# EAGLE library part SST39SF040-45-4C-WHE-T (library PC-Engine)
Flash Memory 4.5 to 5.5 4Mbit Multi-Purpose Flash Source: Datasheet <https://componentsearchengine.com/Datasheets/1/SST39SF040-45-4C-WHE-T.pdf>
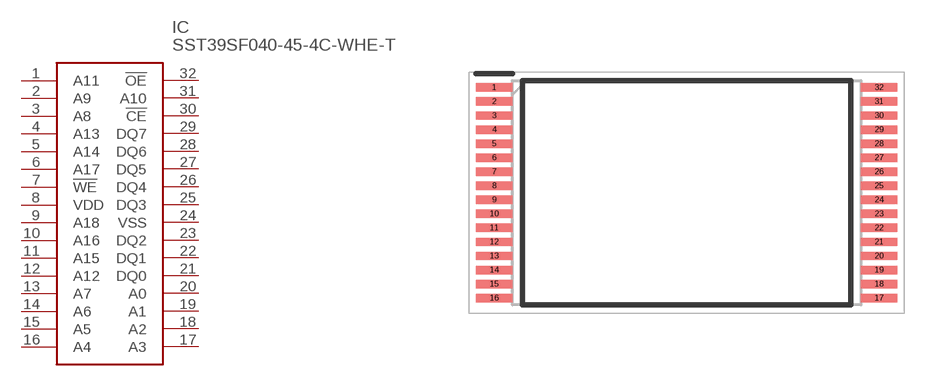
[diagram p1: symbol with the pads of SOP50P1400X120-32N; footprint SOP50P1400X120-32N]

Designator prefix IC

## SST39SF040-45-4C-WHE-T (DESCRIPTION: Flash Memory 4.5 to 5.5 4Mbit Multi-Purpose Flash; HEIGHT: 1.2mm; MANUFACTURER_NAME: Microchip; MANUFACTURER_PART_NUMBER: SST39SF040-45-4C-WHE-T; MOUSER_PART_NUMBER: 579-39SF0404CWHET; MOUSER_PRICE-STOCK: https://www.mouser.com/Search/Refine.aspx?Keyword=579-39SF0404CWHET)  [SOP50P1400X120-32N]
1  A11  in
2  A9  in
3  A8  in
4  A13  in
5  A14  in
6  A17  in
7  !WE  in
8  VDD  pwr
9  A18  in
10  A16  in
11  A15  in
12  A12  in
13  A7  in
14  A6  in
15  A5  in
16  A4  in
17  A3  in
18  A2  in
19  A1  in
20  A0  in
21  DQ0
22  DQ1
23  DQ2
24  VSS  pwr
25  DQ3
26  DQ4
27  DQ5
28  DQ6
29  DQ7
30  !CE  in
31  A10  in
32  !OE  in

## Footprint SOP50P1400X120-32N (pad centres in mm)
WH 32-pin (TSOP)
smd 1.3 x 0.3: 1 -6.85,3.75; 2 -6.85,3.25; 3 -6.85,2.75; 4 -6.85,2.25; 5 -6.85,1.75; 6 -6.85,1.25; 7 -6.85,0.75; 8 -6.85,0.25; 9 -6.85,-0.25; 10 -6.85,-0.75; 11 -6.85,-1.25; 12 -6.85,-1.75; 13 -6.85,-2.25; 14 -6.85,-2.75; 15 -6.85,-3.25; 16 -6.85,-3.75; 17 6.85,-3.75; 18 6.85,-3.25; 19 6.85,-2.75; 20 6.85,-2.25; 21 6.85,-1.75; 22 6.85,-1.25; 23 6.85,-0.75; 24 6.85,-0.25; 25 6.85,0.25; 26 6.85,0.75; 27 6.85,1.25; 28 6.85,1.75; 29 6.85,2.25; 30 6.85,2.75; 31 6.85,3.25; 32 6.85,3.75